# EAGLE library part 614008235023 (library EAGLE-INPUT_OUTPUT_CONNECTORS-rev17c)
WR-COM Vertical Dual USB Type A=>Code : Con_I-O_COM_USB-2.0_A_614008235023 <http://katalog.we-online.de/media/images/eican/Con_I-O_COM_USB-2.0_A_614008235023_pf2.jpg> Details see: http://katalog.we-online.de/en/em/614_008_235_023 Created 2014-07-09, Karrer Zheng 2014 (C) Würth Elektronik
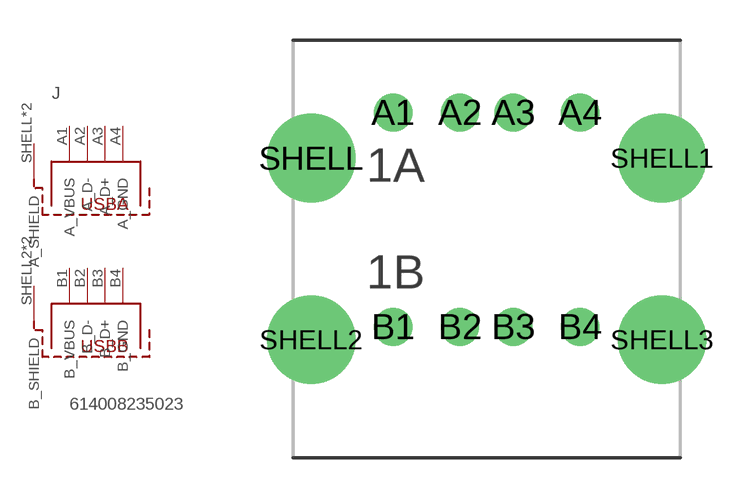
[diagram p64: symbol with the pads of 614008235023; footprint 614008235023]

Designator prefix J

## 614008235023  [614008235023]
A1  A_VBUS
A2  A_D-
A3  A_D+
A4  A_GND
B1  B_VBUS
B2  B_D-
B3  B_D+
B4  B_GND
SHELL  A_SHIELD
SHELL1  A_SHIELD
SHELL2  B_SHIELD
SHELL3  B_SHIELD

## Footprint 614008235023 (pad centres in mm)
WR-COM Vertical Dual USB Type A
drill 0.92: A1 -3.5,5.1; A2 -1,5.1; A3 1,5.1; A4 3.5,5.1; B1 -3.5,-2.92; B2 -1,-2.92; B3 1,-2.92; B4 3.5,-2.92
drill 2.3: SHELL -6.57,3.4; SHELL1 6.57,3.4; SHELL2 -6.57,-3.4; SHELL3 6.57,-3.4